# Altium footprint library multimodal.PcbLib: 69 footprints (part 1 of 5)
Each footprint in its own frame and in the unit in brackets; x right, y up, seen from the top. Pads: shape width x height; smd on the part's side, far side on the other; paste and mask are expansions set on the pad; w line width, h text height; cw(c..) or ccw(c..) is an arc to the next point about the centre after c.
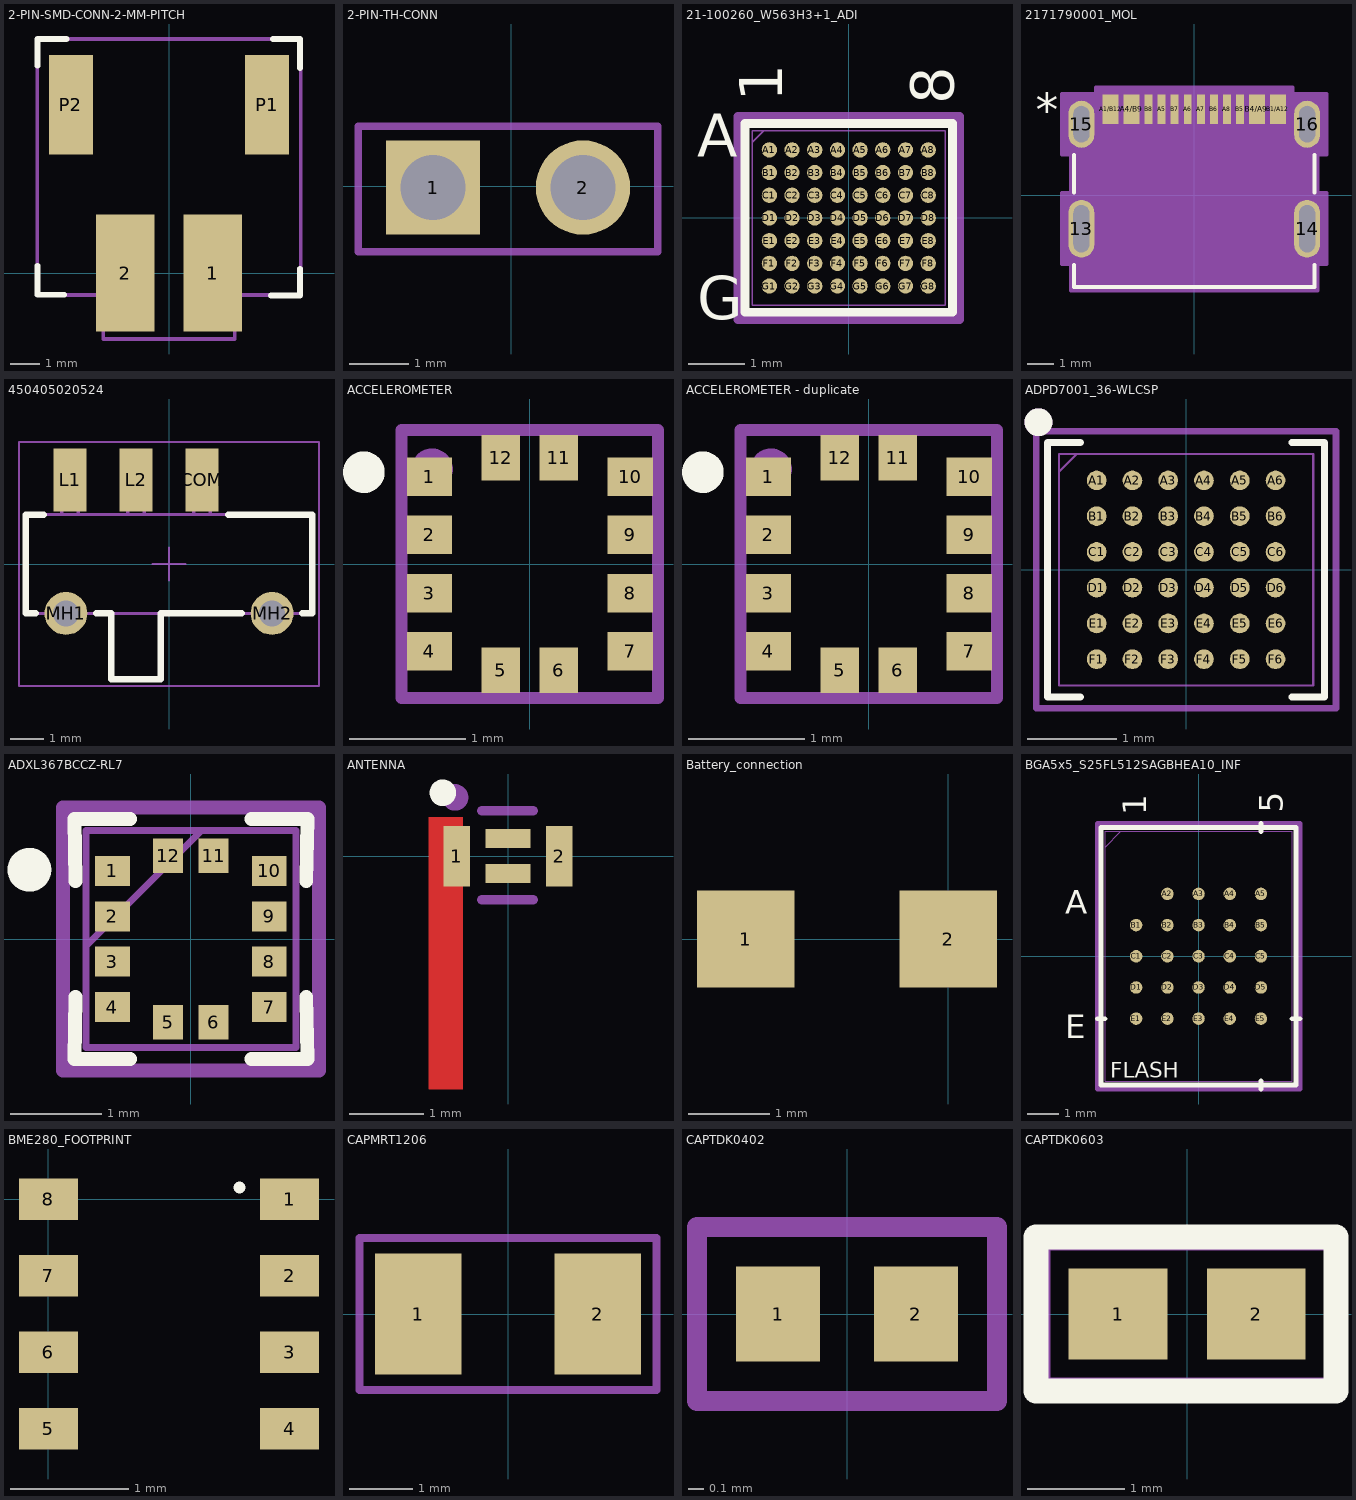
[diagram p0: the footprints below, top view; thin cyan lines are the x and y axes]

## 2-PIN-SMD-CONN-2-MM-PITCH [mm]
pads (4):
  rect 2x4 smd: 1(1.5,0) 2(-1.5,0)
  rect 1.5x3.4 smd: P1(3.35,5.75) P2(-3.35,5.75)
Top Overlay:
  lines w0.2: -4.496,0.254 -4.496,-0.737 -3.581,-0.737 ; -4.496,7.087 -4.496,8.001 -3.505,8.001 ; 3.48,-0.762 4.47,-0.762 4.47,0.152 ; 3.556,8.001 4.47,8.001 4.47,7.01
Mechanical 13:
  lines w0.127: -4.5,-0.75 -4.5,8 4.5,8 4.5,-0.75 2.25,-0.75 2.25,-2.25 -2.25,-2.25 -2.25,-0.75 -4.5,-0.75
  text ".Designator" at -1.397,-0.387 h2.54
3D body "S2B-PH-SM4-TB.step": height 5.58, standoff -0.02, extent -3.95,-1.5 3.95,7.1

## 2-PIN-TH-CONN [mm]
pads (2):
  rect 1.6x1.6 hole 1.1: 1(-1.321,-0.025)
  round 1.6 hole 1.1: 2(1.219,-0.025)
Mechanical 13:
  lines w0.127: -2.591,-1.118 2.489,-1.118 2.489,1.016 -2.591,1.016 -2.591,-1.118
  text ".Designator" at -1.295,-0.279 h2.03

## 21-100260_W563H3+1_ADI [mm]
pads (56):
  round 0.27 smd paste+0 mask+0.01: A1(-1.4,1.2) A2(-1,1.2) A3(-0.6,1.2) A4(-0.2,1.2) A5(0.2,1.2) A6(0.6,1.2) A7(1,1.2) A8(1.4,1.2) B1(-1.4,0.8) B2(-1,0.8) B3(-0.6,0.8) B4(-0.2,0.8) B5(0.2,0.8) B6(0.6,0.8) B7(1,0.8) B8(1.4,0.8) C1(-1.4,0.4) C2(-1,0.4) C3(-0.6,0.4) C4(-0.2,0.4) C5(0.2,0.4) C6(0.6,0.4) C7(1,0.4) C8(1.4,0.4) D1(-1.4,0) D2(-1,0) D3(-0.6,0) D4(-0.2,0) D5(0.2,0) D6(0.6,0) D7(1,0) D8(1.4,0) E1(-1.4,-0.4) E2(-1,-0.4) E3(-0.6,-0.4) E4(-0.2,-0.4) E5(0.2,-0.4) E6(0.6,-0.4) E7(1,-0.4) E8(1.4,-0.4) F1(-1.4,-0.8) F2(-1,-0.8) F3(-0.6,-0.8) F4(-0.2,-0.8) F5(0.2,-0.8) F6(0.6,-0.8) F7(1,-0.8) F8(1.4,-0.8) G1(-1.4,-1.2) G2(-1,-1.2) G3(-0.6,-1.2) G4(-0.2,-1.2) G5(0.2,-1.2) G6(0.6,-1.2) G7(1,-1.2) G8(1.4,-1.2)
Top Overlay:
  lines w0.152: -1.829,-1.664 1.829,-1.664 1.829,1.664 -1.829,1.664 -1.829,-1.664
  text "A" at -2.675,1.075 h0.76
  text "G" at -2.672,-1.785 h0.76
  text "1" at -1.175,2.05 h0.76
  text "8" at 1.85,2 h0.76
Mechanical 13:
  lines w0.025: -1.702,1.337 -1.502,1.537 ; -1.702,-1.537 1.702,-1.537 1.702,1.537 -1.702,1.537 -1.702,-1.537
  text "G" at -2.672,-1.785 h0.76
  text "A" at -2.675,1.125 h0.76
  text ".Designator" at -3.55,-3.45 h1.27
  text "1" at -1.175,2.025 h0.76
  text "8" at 1.825,2 h0.76
Mechanical 15:
  lines w0.152: -1.956,-1.791 -1.956,1.791 1.956,1.791 1.956,-1.791 -1.956,-1.791
3D body "21-100260_W563H3+1_ADI.step": height 0.69, standoff 0, extent -1.702,-1.537 1.702,1.537

## 2171790001_MOL [mil]
pads (16):
  oval 39x87 hole 71 slot 24 at 0 deg paste-99999 mask-43.5: 13(-170.08,-50.07) 14(170.08,-50.07)
  oval 39x71 hole 55 slot 24 at 0 deg paste-99999 mask-35.5: 15(-170.08,107.41) 16(170.08,107.41)
  rect 24x45 smd paste+0 mask+0: A1/B12(-125.98,130.05) A4/B9(-94.49,130.05) B1/A12(125.98,130.05) B4/A9(94.49,130.05)
  rect 12x45 smd paste+0 mask+0: A5(-49.21,130.05) A6(-9.84,130.05) A7(9.84,130.05) A8(49.21,130.05) B5(68.9,130.05) B6(29.53,130.05) B7(-29.53,130.05) B8(-68.9,130.05)
Top Overlay:
  lines w6: -181,-104.79 -181,-138 181,-138 181,-104.79 ; -181,4.65 -181,60.69 ; 181,4.65 181,60.69
  text "*" at -238.48,105.05 h50
  text ".Designator" at -137.5,105.05 h50
Mechanical 13:
  lines w1: -176,-133 176,-133 176,133 -176,133 -176,-133
  text ".Designator" at -137.5,105.05 h50
  text "*" at -238.48,105.05 h50
Mechanical 15:
  region: -186,-103.57 -186,-143 186,-143 186,-103.57 199.58,-103.57 199.58,3.43 186,3.43 186,61.91 199.58,61.91 199.58,152.91 147.98,152.91 147.98,162.55 -147.98,162.55 -147.98,152.91 -199.58,152.91 -199.58,61.91 -186,61.91 -186,3.43 -199.58,3.43 -199.58,-103.57
  lines w6: -199.58,-103.57 -186,-103.57 -186,-143 186,-143 186,-103.57 199.58,-103.57 199.58,3.43 186,3.43 186,61.91 199.58,61.91 199.58,152.91 147.98,152.91 147.98,162.55 -147.98,162.55 -147.98,152.91 -199.58,152.91 -199.58,61.91 -186,61.91 -186,3.43 -199.58,3.43 -199.58,-103.57
3D body "2171790001--3DModel-STEP-510211.STEP": height 127.56, standoff -20.47, extent -175.98,-132.87 175.98,132.87

## 450405020524 [mm] "SMT Mini Slide Switch, Same side connection"
height 2
pads (5):
  rect 1x1.9 smd: COM(1,2.55) L1(-3,2.55) L2(-1,2.55)
  round 1.3 hole 0.8: MH1(-3.125,-1.5) MH2(3.125,-1.5)
Top Overlay:
  lines w0.2: -4.05,-1.5 -4.35,-1.5 -4.35,1.5 -3.8,1.5 ; -2.2,-1.5 -1.75,-1.5 -1.75,-3.5 -0.25,-3.5 -0.25,-1.5 2.2,-1.5 ; 1.8,1.5 4.35,1.5 4.35,-1.5 4.05,-1.5
Top Courtyard:
  lines w0.05: -0.5,0 0.5,0 ; 0,-0.5 0,0.5 ; -4.55,-3.7 -4.55,3.7 4.55,3.7 4.55,-3.7 -4.55,-3.7
Top Component Outline:
  lines w0.1: -3.25,1.5 -3.25,3 -2.75,3 -2.75,1.5 ; -1.75,-1.5 -1.75,-3.5 -0.25,-3.5 -0.25,-1.5 ; -1.25,1.5 -1.25,3 -0.75,3 -0.75,1.5 ; 0.75,1.5 0.75,3 1.25,3 1.25,1.5 ; -4.35,-1.5 4.35,-1.5 4.35,1.5 -4.35,1.5 -4.35,-1.5
Top Designator:
  text ".Designator" at -7.498,-0.5 h1.5
3D body "450405020524.stp": height 1.98, standoff -0.62, extent -4.45,-3.5 4.45,3.05

## ACCELEROMETER [mm]
pads (12):
  rect 0.39x0.33 smd: 1(-0.86,0.75) 2(-0.86,0.25) 3(-0.86,-0.25) 4(-0.86,-0.75) 7(0.86,-0.75) 8(0.86,-0.25) 10(0.86,0.75)
  rect 0.33x0.39 smd: 5(-0.25,-0.91) 6(0.25,-0.91) 11(0.25,0.91) 12(-0.25,0.91)
  rect 0.39x0.33 smd mask+0.102: 9(0.86,0.25)
Top Overlay:
  circle w0.254: c-1.422,0.787 r0.051
Mechanical 13:
  circle w0.254: c-0.838,0.813 r0.051
  lines w0.1: -1.1,-1.15 1.1,-1.15 1.1,1.15 -1.1,1.15 -1.1,-1.15
  text ".Designator" at -0.914,-0.143 h1.27
3D body "ADXL367BCCZ-RL7.stp": height 1.07, standoff 0, extent -1.1,-1.125 1.1,1.175

## ACCELEROMETER - duplicate [mm]
pads (12):
  rect 0.39x0.33 smd: 1(-0.86,0.75) 2(-0.86,0.25) 3(-0.86,-0.25) 4(-0.86,-0.75) 7(0.86,-0.75) 8(0.86,-0.25) 10(0.86,0.75)
  rect 0.33x0.39 smd: 5(-0.25,-0.91) 6(0.25,-0.91) 11(0.25,0.91) 12(-0.25,0.91)
  rect 0.39x0.33 smd mask+0.102: 9(0.86,0.25)
Top Overlay:
  circle w0.254: c-1.422,0.787 r0.051
Mechanical 13:
  circle w0.254: c-0.838,0.813 r0.051
  lines w0.1: -1.1,-1.15 1.1,-1.15 1.1,1.15 -1.1,1.15 -1.1,-1.15
  text ".Designator" at -0.914,-0.143 h1.27
3D body "ADXL367BCCZ-RL7.stp": height 1.07, standoff 0, extent -1.1,-1.15 1.1,1.15

## ADPD7001_36-WLCSP [mm]
pads (36):
  round 0.22 smd paste+0 mask+0.025: A1(-1,1) A2(-0.6,1) A3(-0.2,1) A4(0.2,1) A5(0.6,1) A6(1,1) B1(-1,0.6) B2(-0.6,0.6) B3(-0.2,0.6) B4(0.2,0.6) B5(0.6,0.6) B6(1,0.6) C1(-1,0.2) C2(-0.6,0.2) C3(-0.2,0.2) C4(0.2,0.2) C5(0.6,0.2) C6(1,0.2) D1(-1,-0.2) D2(-0.6,-0.2) D3(-0.2,-0.2) D4(0.2,-0.2) D5(0.6,-0.2) D6(1,-0.2) E1(-1,-0.6) E2(-0.6,-0.6) E3(-0.2,-0.6) E4(0.2,-0.6) E5(0.6,-0.6) E6(1,-0.6) F1(-1,-1) F2(-0.6,-1) F3(-0.2,-1) F4(0.2,-1) F5(0.6,-1) F6(1,-1)
Top Overlay:
  circle w0.254: c-1.651,1.651 r0.028
  lines w0.076: -1.181,-1.422 -1.549,-1.422 -1.549,1.422 -1.181,1.422 ; 1.181,-1.422 1.549,-1.422 1.549,1.422 1.181,1.422
Top 3D Body:
  lines w0.025: -1.422,1.095 -1.222,1.295 ; -1.422,-1.295 1.422,-1.295 1.422,1.295 -1.422,1.295 -1.422,-1.295
Top Courtyard:
  lines w0.076: -1.676,-1.549 -1.676,1.549 1.676,1.549 1.676,-1.549 -1.676,-1.549
Top Assembly:
  circle w0.254: c-1.651,1.651 r0.028
  text ".Designator" at -1.706,-0.171 h0.76
Top Designator:
  text ".Designator" at -1.706,-0.171 h0.76
3D body: height 0.59, standoff 0, extent -1.422,-1.295 1.422,1.295

## ADXL367BCCZ-RL7 [mil]
pads (12):
  rect 15x13 smd paste+0 mask+2: 1(-34,29.53) 2(-34,9.84) 3(-34,-9.84) 4(-34,-29.53) 7(34,-29.53) 8(34,-9.84) 9(34,9.84) 10(34,29.53)
  rect 13x15 smd paste+0 mask+2: 5(-9.84,-36) 6(9.84,-36) 11(9.84,36) 12(-9.84,36)
Top Overlay:
  circle w10: c-70,30 r4.5
  lines w6: -50,-25 -50.5,-52 -26.31,-52 ; -50,25 -50.5,52 -26.31,52 ; 26.31,-52 50.5,-52 50,-25 ; 26.31,52 50.5,52 50,25
Top 3D Body:
  lines w3: -45.5,-36.03 -45.5,-23.03 ; -45.5,-16.34 -45.5,-3.34 ; -45.5,-3 4.5,47 ; -45.5,3.34 -45.5,16.34 ; -45.5,23.03 -45.5,36.03 ; -16.34,-47 -3.34,-47 ; -16.34,47 -3.34,47 ; 3.34,-47 16.34,-47 ; 3.34,47 16.34,47 ; 45.5,-36.03 45.5,-23.03 ; 45.5,-16.34 45.5,-3.34 ; 45.5,3.34 45.5,16.34 ; 45.5,23.03 45.5,36.03 ; -45.5,-47 45.5,-47 45.5,47 -45.5,47 -45.5,-47
Top Courtyard:
  lines w6: -55.5,-57 -55.5,-46.03 -55.5,46.03 -55.5,57 -26.34,57 26.34,57 55.5,57 55.5,46.03 55.5,-46.03 55.5,-57 26.34,-57 -26.34,-57 -55.5,-57
Top Assembly:
  text ".Designator" at -134.83,-13.55 h60
Top Designator:
  text ".Designator" at -135.41,-23.9 h60
3D body "CC-12-4_ADI.step": height 38.11, standoff 0, extent -45.51,-47.01 45.51,47.01

## ANTENNA [mm]
pads (4):
  rect 0.356x0.813 smd paste+0 mask+0: 1(-0.69,0) 2(0.69,0)
  rect 0.61x0.26 smd paste+0 mask+0: ""(0,-0.235) ""(0,0.235)
Top Layer:
  region: -1.067,0.52 -1.067,-3.13 -0.61,-3.13 -0.61,0.52
Top Overlay:
  circle w0.254: c-0.875,0.85 r0.051
Mechanical 13:
  circle w0.254: c-0.711,0.787 r0.051
  lines w0.127: -0.351,-0.584 0.34,-0.584 ; -0.351,0.61 0.34,0.61
  text ".Designator" at -0.813,-0.089 h1.02
3D body "QFN_2442MA2_TDK.step": height 0.41, standoff 0, extent -0.902,-0.495 0.902,0.495

## Battery_connection [mm]
pads (2):
  rect 1.2x1.2 smd paste+0 mask+0.1: 1(-2.5,0) 2(0,0)
Mechanical 13:
  text ".Designator" at -2.65,-0.087 h1.27

## BGA5x5_S25FL512SAGBHEA10_INF [mm]
pads (24):
  round 0.4 smd paste+0 mask+0.05: A2(-1,2) A3(0,2) A4(1,2) A5(2,2) B1(-2,1) B2(-1,1) B3(0,1) B4(1,1) B5(2,1) C1(-2,0) C2(-1,0) C3(0,0) C4(1,0) C5(2,0) D1(-2,-1) D2(-1,-1) D3(0,-1) D4(1,-1) D5(2,-1) E1(-2,-2) E2(-1,-2) E3(0,-2) E4(1,-2) E5(2,-2)
Top Overlay:
  lines w0.152: -3.251,-2 -2.997,-2 ; 2,-4.255 2,-4 ; 2,4 2,4.255 ; 2.997,-2 3.251,-2 ; -3.124,-4.127 -3.124,4.127 3.124,4.127 3.124,-4.127 -3.124,-4.127
  text "FLASH" at -2.825,-3.9 h0.5
  text "5" at 2.7,4.6 h0.76
  text "E" at -4.267,-2.635 h0.76
  text "A" at -4.267,1.365 h0.76
  text "1" at -1.675,4.525 h0.76
Mechanical 13:
  lines w0.025: -2.997,3.501 -2.497,4 ; -2.997,-4 -2.997,4 2.997,4 2.997,-4 -2.997,-4
  text ".Designator" at -2.725,0 h1.27
  text "E" at -4.267,-2.635 h0.76
  text "A" at -4.267,1.365 h0.76
Mechanical 15:
  lines w0.152: -3.251,-4.255 3.251,-4.255 3.251,4.255 -3.251,4.255 -3.251,-4.255
3D body "BGA5x5_S25FL512SAGBHEA10_INF.step": height 1.2, standoff 0, extent -3.025,-3.975 2.969,4.025

## BME280_FOOTPRINT [mm]
pads (8):
  rect 0.5x0.35 smd mask+0.05: 1(2.05,0) 2(2.05,-0.65) 3(2.05,-1.3) 4(2.05,-1.95) 5(0,-1.95) 6(0,-1.3) 7(0,-0.65) 8(0,0)
Top Overlay:
  lines w0.1: 1.625,0.1 1.625,0.1
3D body "step_temp.STEP": height 1, standoff 0, extent -0.225,-2.225 2.275,0.275

## CAPMRT1206 [mm]
pads (2):
  rect 1.37x1.91 smd: 1(-1.421,0) 2(1.421,0)
Mechanical 13:
  lines w0.127: -2.355,-1.205 2.355,-1.205 2.355,1.205 -2.355,1.205 -2.355,-1.205
  text ".Designator" at -0.457,-0.216 h1.02
3D body "GRM31CR60J227ME11K.step": height 1.57, standoff -0.03, extent -1.6,-0.947 1.6,0.953

## CAPTDK0402 [mm]
pads (2):
  rect 0.53x0.6 smd: 1(-0.437,0) 2(0.437,0)
Mechanical 13:
  lines w0.127: -0.95,-0.55 -0.95,0.55 0.95,0.55 0.95,-0.55 -0.95,-0.55
  text ".Designator" at -0.787,-0.114 h1.02
3D body "step_temp.STEP": height 0.55, standoff 0, extent -0.5,-0.25 0.5,0.25

## CAPTDK0603 [mm]
pads (2):
  rect 1.01x0.93 smd: 1(-0.709,0) 2(0.709,0)
Top Overlay:
  lines w0.254: -1.549,-0.787 1.524,-0.787 1.524,0.787 -1.549,0.787 -1.549,-0.787
Mechanical 13:
  lines w0.127: -1.465,-0.715 1.465,-0.715 1.465,0.715 -1.465,0.715 -1.465,-0.715
  text ".Designator" at -1.041,-0.143 h1.27
3D body "step_temp.STEP": height 0.9, standoff 0, extent -0.8,-0.4 0.8,0.4